# Altium footprint library QuartzThrough.PcbLib: 1 footprints
Each footprint in its own frame and in the unit in brackets; x right, y up, seen from the top. Pads: shape width x height; smd on the part's side, far side on the other; paste and mask are expansions set on the pad; w line width, h text height; cw(c..) or ccw(c..) is an arc to the next point about the centre after c.
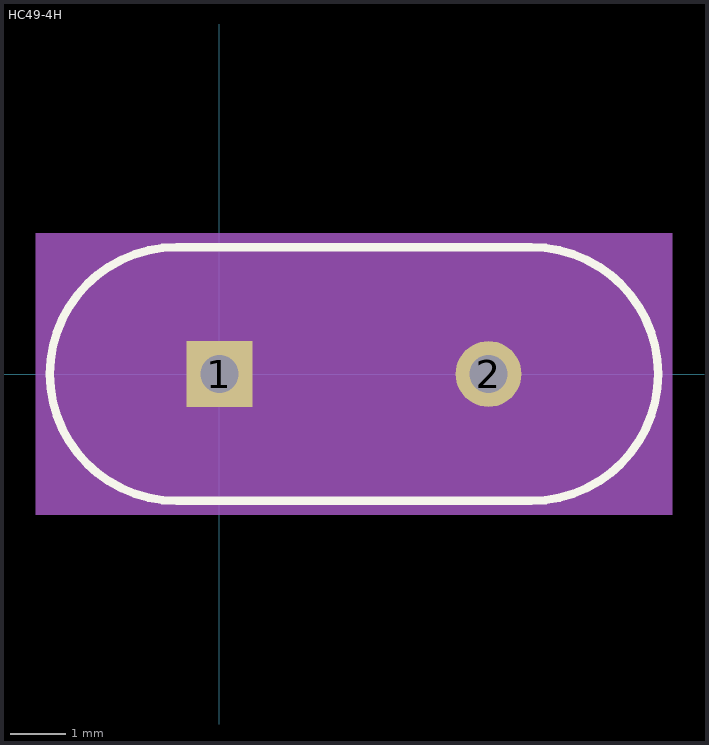
[diagram p0: the footprint, top view; thin cyan lines are the x and y axes]

## HC49-4H [mil]
pads (2):
  rect 47x47 hole 27 mask+0: 1(0,0)
  round 47 hole 27 mask+0: 2(192,0)
Top Overlay:
  lines w6: -30.5,-90.5 cw(c-30.5,0) -30.5,90.5 222.5,90.5 cw(c222.5,0) 313,0 cw(c222.5,0) 222.5,-90.5 -30.5,-90.5
Mechanical 5:
  region: 323,-100.5 -131,-100.5 -131,100.5 323,100.5
Mechanical 13:
  lines w0: -30.5,-85.5 cw(c-30.5,0) -30.5,85.5 ; 222.5,-85.5 ccw(c222.5,0) 222.5,85.5
  lines w1: -30.5,-85.5 222.5,-85.5 ; -30.5,85.5 222.5,85.5
Mechanical 15:
  region: 318,-95.5 -126,-95.5 -126,95.5 318,95.5
  lines w6: -126,-95.5 -126,95.5 318,95.5 318,-95.5 -126,-95.5
3D body "HC49-4H.step": height 137.99, standoff -150.98, extent -124.56,-94.05 316.53,94.06
3D body: height 10, standoff 0, extent 0,0 10,10